# EAGLE library part MCP4822-E/P (library Rebel)
DAC
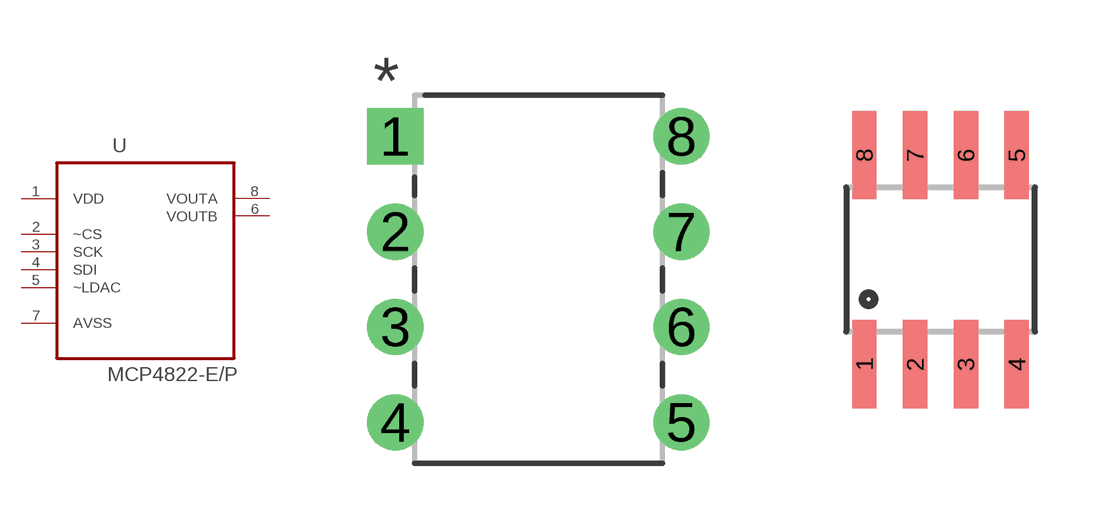
[diagram p10: symbol with the pads of DIP254P762X432-8; footprints DIP254P762X432-8, SOIC8]

Designator prefix -

## MCP4822-E/PDIP8 (MPN: MCP4822-E/P; OC_FARNELL: 1439413; OC_NEWARK: 11M1705; PACKAGE: DIP-8; SUPPLIER: Microchip)  [DIP254P762X432-8]
1  VDD  pwr
2  ~CS  in
3  SCK  in
4  SDI  in
5  ~LDAC  in
6  VOUTB  out
7  AVSS  pas
8  VOUTA  out

## MCP4822-E/PSOIC8  [SOIC8]
Pads as for DIP254P762X432-8

## Footprint DIP254P762X432-8 (pad centres in mm)
drill 0.991 square: 1 -7.62,7.62
drill 0.991: 2 -7.62,5.08; 3 -7.62,2.54; 4 -7.62,0; 5 0,0; 6 0,2.54; 7 0,5.08; 8 0,7.62

## Footprint SOIC8 (pad centres in mm)
smd 0.61 x 2.21: 1 -1.905,-2.616; 2 -0.635,-2.616; 3 0.635,-2.616; 4 1.905,-2.616; 5 1.905,2.616; 6 0.635,2.616; 7 -0.635,2.616; 8 -1.905,2.616